# EAGLE library part BQ2000PW (library Deegou_IC)
Texas Instruments BQ2000PW, Battery Charge Controller Lithium-Ion, NiCD, NiMH, 8-Pin TSSOP Source: Datasheet <http://www.ti.com/lit/gpn/bq2000>
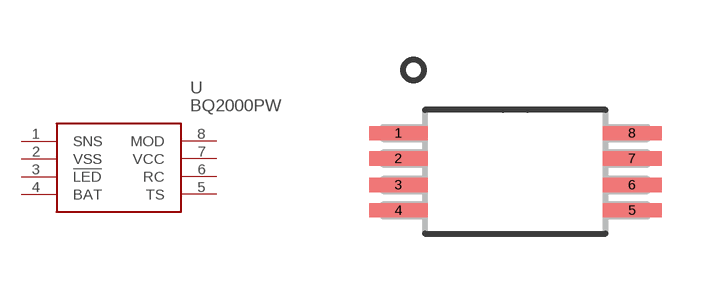
[diagram p98: symbol with the pads of SOP65P640X120-8N; footprint SOP65P640X120-8N]

Designator prefix U

## BQ2000PW (ARROW_PART_NUMBER: BQ2000PW; ARROW_PRICE/STOCK: https://www.arrow.com/en/products/bq2000pw/texas-instruments; DESCRIPTION: Texas Instruments BQ2000PW, Battery Charge Controller Lithium-Ion, NiCD, NiMH, 8-Pin TSSOP; HEIGHT: mm; MANUFACTURER_NAME: Texas Instruments; MANUFACTURER_PART_NUMBER: BQ2000PW; RS_PART_NUMBER: 6622101P; RS_PRICE/STOCK: http://uk.rs-online.com/web/p/products/6622101P)  [SOP65P640X120-8N]
1  SNS
2  VSS
3  !LED
4  BAT
5  TS
6  RC
7  VCC
8  MOD

## Footprint SOP65P640X120-8N (pad centres in mm)
SOP65P640X120-8N
smd 1.473 x 0.356: 1 -2.921,0.965; 2 -2.921,0.33; 3 -2.921,-0.33; 4 -2.921,-0.965; 5 2.921,-0.965; 6 2.921,-0.33; 7 2.921,0.33; 8 2.921,0.965